# EAGLE library part CON_HEADER_2X07 (library dp_devices)
2x07 pin header
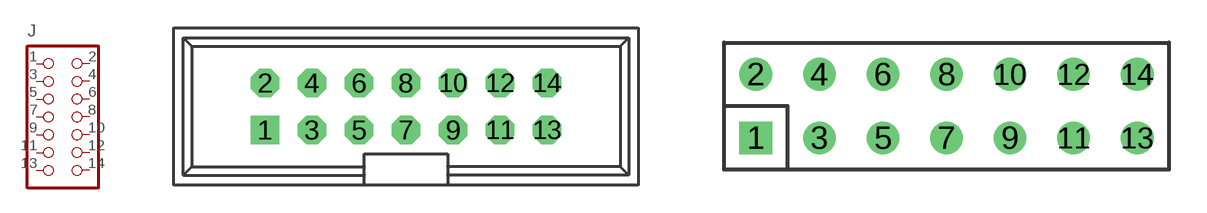
[diagram p99: symbol with the pads of PINSHRD_PTH_2X07; footprints PINSHRD_PTH_2X07, M2X7]

Designator prefix J

## CON_HEADER_2X07-PTH-SHROUDED  [PINSHRD_PTH_2X07]
1  1  pas
2  2  pas
3  3  pas
4  4  pas
5  5  pas
6  6  pas
7  7  pas
8  8  pas
9  9  pas
10  10  pas
11  11  pas
12  12  pas
13  13  pas
14  14  pas

## CON_HEADER_2X07-PTH  [M2X7]
Pads as for PINSHRD_PTH_2X07

## Footprint PINSHRD_PTH_2X07 (pad centres in mm)
Shrouded pin header, 0.1" pitch
drill 1.016 square: 1 -7.62,-1.27
drill 1.016 octagon: 2 -7.62,1.27; 3 -5.08,-1.27; 4 -5.08,1.27; 5 -2.54,-1.27; 6 -2.54,1.27; 7 0,-1.27; 8 0,1.27; 9 2.54,-1.27; 10 2.54,1.27; 11 5.08,-1.27; 12 5.08,1.27; 13 7.62,-1.27; 14 7.62,1.27

## Footprint M2X7 (pad centres in mm)
drill 0.8 square: 1 -7.62,-1.27
drill 0.8 round: 2 -7.62,1.27; 3 -5.08,-1.27; 4 -5.08,1.27; 5 -2.54,-1.27; 6 -2.54,1.27; 7 0,-1.27; 8 0,1.27; 9 2.54,-1.27; 10 2.54,1.27; 11 5.08,-1.27; 12 5.08,1.27; 13 7.62,-1.27; 14 7.62,1.27